# EAGLE library part ACS722 (library ACS722)
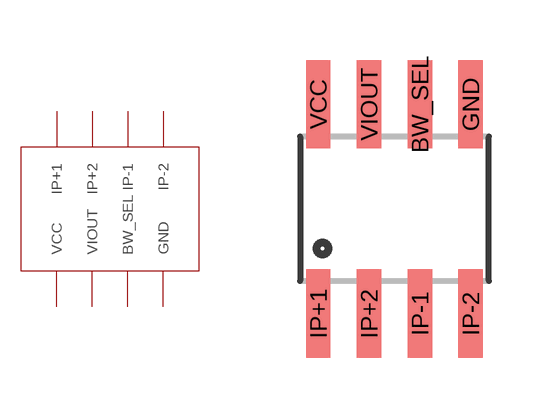
[diagram p0: symbol with the pads of SOIC-8; footprint SOIC-8]

Designator prefix -

## ACS722  [SOIC-8]
BW_SEL  BW_SEL
GND  GND
IP+1  IP+1
IP+2  IP+2
IP-1  IP-1
IP-2  IP-2
VCC  VCC
VIOUT  VIOUT

## Footprint SOIC-8 (pad centres in mm)
smd 0.61 x 2.21: BW_SEL 0.635,2.616; GND 1.905,2.616; IP+1 -1.905,-2.616; IP+2 -0.635,-2.616; IP-1 0.635,-2.616; IP-2 1.905,-2.616; VCC -1.905,2.616; VIOUT -0.635,2.616